# Altium integrated library Linear Technology Power Management Hot Swap Controllers.IntLib: 992 symbols (part 48 of 93)
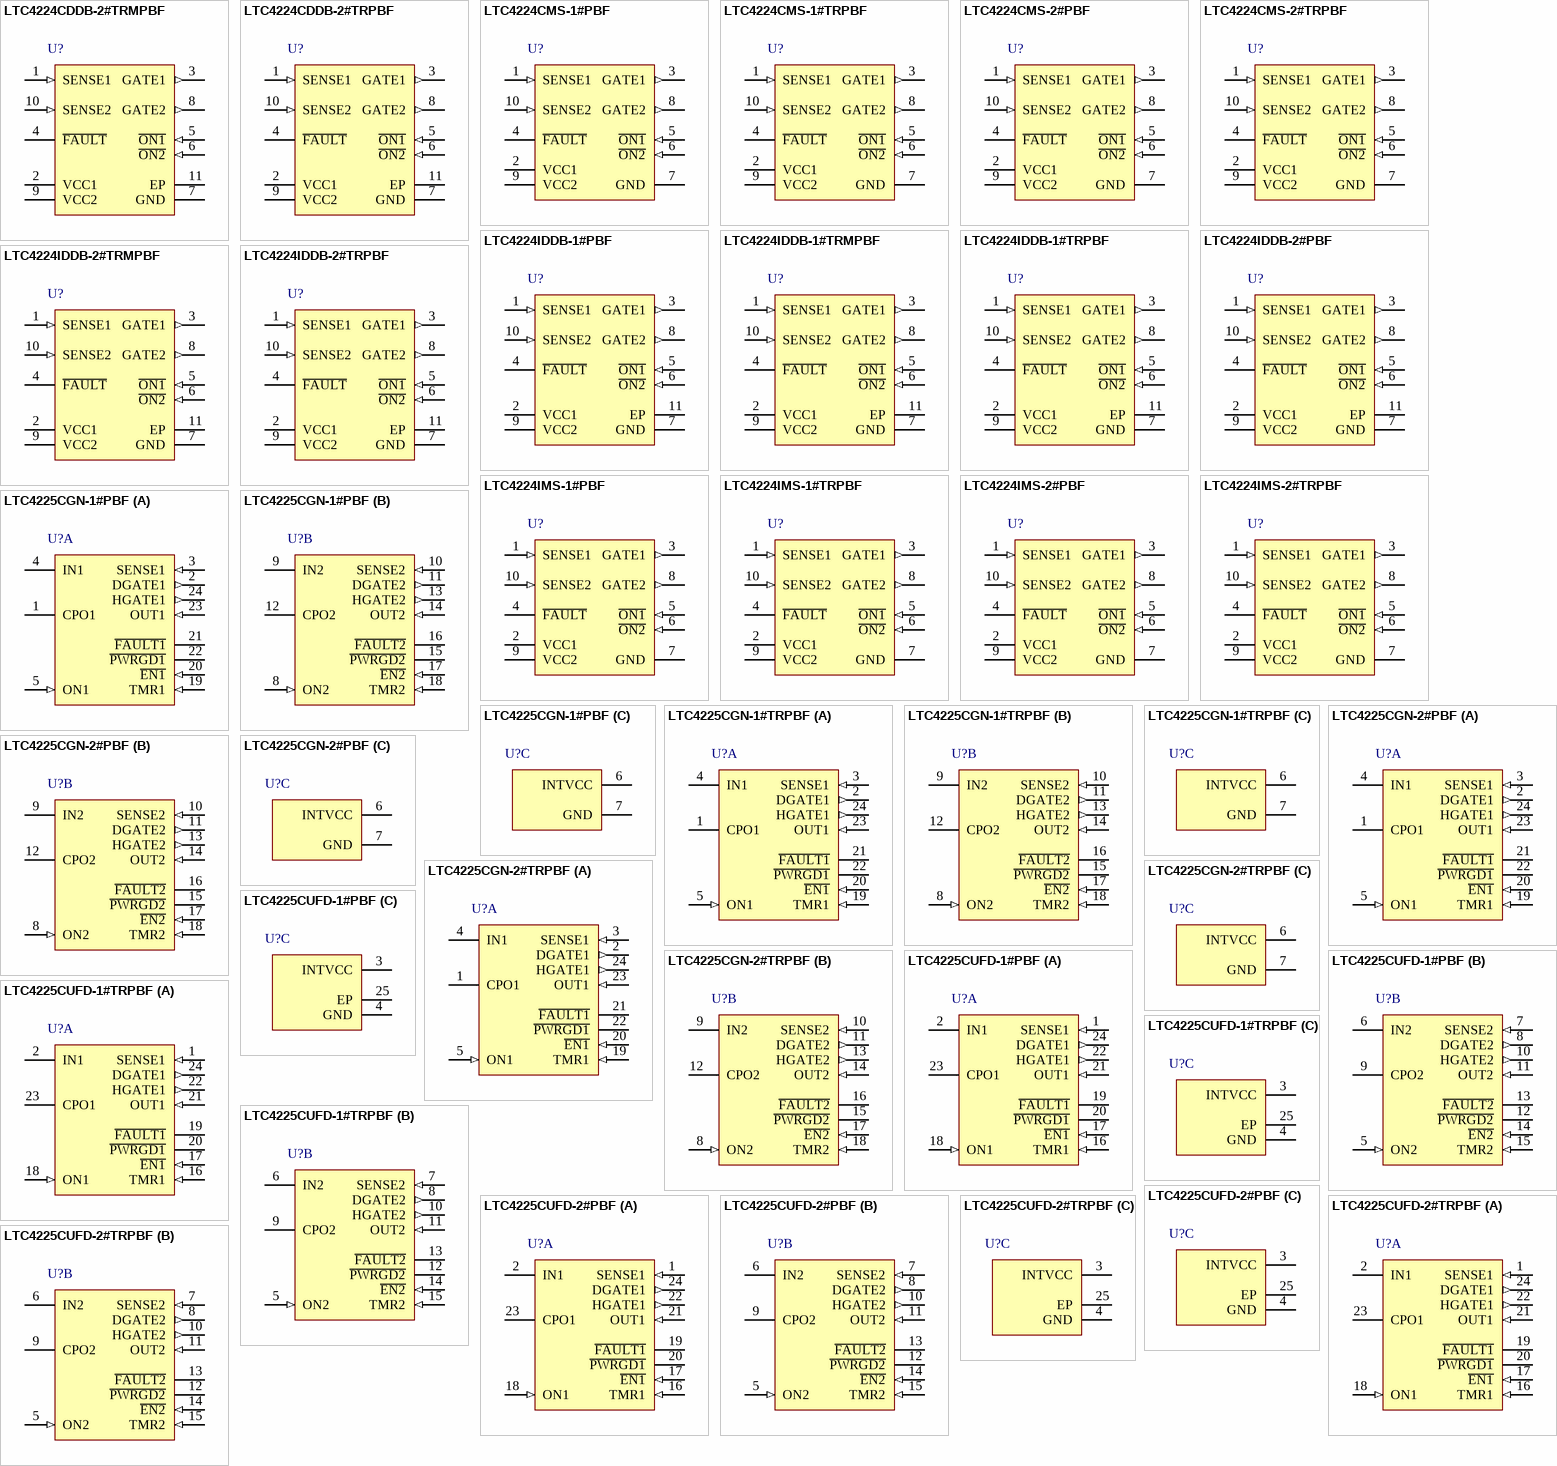
[diagram p84: symbols LTC4224CDDB-2#TRMPBF to LTC4225CUFD-2#TRPBF]

## LTC4224IDDB-2#TRMPBF
designator U?
Compact Dual Low Voltage Hot Swap Controller, 1 to 6 V Vin, 10-pin SON (DDB-10), -40 to 85 degC, Pb-Free, Mini Tape and Reel; Manufacturer: Linear Technology; PartNumber: LTC4224IDDB-2#TRMPBF; Active Limiting: yes; Circuit Breaker Accuracy(%): 10; Circuit Breaker Threshold: 50 mV; Circuit Breakers(#): 2; Extended Temp: C, I; Fast Comparator: no; Vin Range: 1V to 6 V; DatasheetVersion: Rev. A; PackageVersion: Rev. Ø, 06/2010; PackageReference: DDB10; PackageDescription: 10-Pin Plastic DFN, Body 3 x 2 mm, Pitch 0.5 mm; Supplier 1: Digi-Key; Supplier Part Number 1: LTC4224IDDB-2#TRMPBFTR-ND; Supplier 2: Digi-Key; Supplier Part Number 2: LTC4224IDDB-2#TRMPBFCT-ND; Supplier 3: Digi-Key; Supplier Part Number 3: LTC4224IDDB-2#TRMPBFDKR-ND; Fault: no; Foldback: no; Packing: Mini Tape and Reel; Power Good: yes; Reset: yes; RoHS: TRUE; Mounting Technology: Surface Mount; Code_JEDEC: MO-229; ComponentLink1Description: Manufacturer URL; ComponentLink1URL: http://www.linear.com/; ComponentLink2Description: Datasheet; ComponentLink2URL: http://cds.linear.com/docs/en/datasheet/422412fa.pdf; ComponentLink3Description: Package Specification; ComponentLink3URL: http://cds.linear.com/docs/en/packaging/DFN_10_05-08-1722.pdf
footprint LT-DDB-10_V (SON, 10-Leads, Body 3x2mm, Pitch 0.5mm, Thermal Pad 2.39x0.64mm)
pins: 1 SENSE1 (in) "Current Sense Input. Connect this pin to an external sense resistor. The current limit circuit controls GATEn to limit the voltage between VCCn and SENSEn to 25mV. An Electronic Circuit Breaker (ECB) is active during current (See Datasheet)", 2 VCC1 (power) "Supply Voltage and Current Sense Input. An undervoltage lockout circuit disables the part until VCC, the higher of VCC1 and VCC2, exceeds 2.4V. The lower supply is disabled until it exceeds 0.8V.", 3 GATE1 (out) "Gate Drive for External N-channel MOSFET. A charge pump sources 10uA from GATE to turn on the external MOSFET. An internal clamp limits the gate voltage to 5.5V above the higher of VCC1 and VCC2. During turn-off, a 1.5mA (See Datasheet)", 4 ~{FAULT} (oc) "Fault Status Output. Open-drain output that is normally pulled high to VCC1 or VCC2 by an external resistor. It is pulled low when the ECB trips due to an overcurrent condition at either supply. This pin may be left open if (See Datasheet)", 5 ~{ON1} (in) "On Control Input. A falling edge turns on the external N-channel MOSFET and a rising edge turns it off. A low to high transition on this pin resets an ECB fault for the corresponding channel. Internally pulled up to VCC by a (See Datasheet)", 6 ~{ON2} (in) "On Control Input. A falling edge turns on the external N-channel MOSFET and a rising edge turns it off. A low to high transition on this pin resets an ECB fault for the corresponding channel. Internally pulled up to VCC by a (See Datasheet)", 7 GND (power) "Device Ground.", 8 GATE2 (out) "Gate Drive for External N-channel MOSFET. A charge pump sources 10uA from GATE to turn on the external MOSFET. An internal clamp limits the gate voltage to 5.5V above the higher of VCC1 and VCC2. During turn-off, a 1.5mA (See Datasheet)", 9 VCC2 (power) "Supply Voltage and Current Sense Input. An undervoltage lockout circuit disables the part until VCC, the higher of VCC1 and VCC2, exceeds 2.4V. The lower supply is disabled until it exceeds 0.8V.", 10 SENSE2 (in) "Current Sense Input. Connect this pin to an external sense resistor. The current limit circuit controls GATEn to limit the voltage between VCCn and SENSEn to 25mV. An Electronic Circuit Breaker (ECB) is active during current (See Datasheet)", 11 EP "Exposed Pad may be left open or connected to device ground."

## LTC4224IDDB-2#TRPBF
designator U?
Compact Dual Low Voltage Hot Swap Controller, 1 to 6 V Vin, 10-pin SON (DDB-10), -40 to 85 degC, Pb-Free, Tape and Reel; Manufacturer: Linear Technology; PartNumber: LTC4224IDDB-2#TRPBF; Active Limiting: yes; Circuit Breaker Accuracy(%): 10; Circuit Breaker Threshold: 50 mV; Circuit Breakers(#): 2; Extended Temp: C, I; Fast Comparator: no; Vin Range: 1V to 6 V; DatasheetVersion: Rev. A; PackageVersion: Rev. Ø, 06/2010; PackageReference: DDB10; PackageDescription: 10-Pin Plastic DFN, Body 3 x 2 mm, Pitch 0.5 mm; Supplier 1: Digi-Key; Supplier Part Number 1: LTC4224IDDB-2#TRPBF-ND; Fault: no; Foldback: no; Packing: Tape and Reel; Power Good: yes; Reset: yes; RoHS: TRUE; Mounting Technology: Surface Mount; Code_JEDEC: MO-229; ComponentLink1Description: Manufacturer URL; ComponentLink1URL: http://www.linear.com/; ComponentLink2Description: Datasheet; ComponentLink2URL: http://cds.linear.com/docs/en/datasheet/422412fa.pdf; ComponentLink3Description: Package Specification; ComponentLink3URL: http://cds.linear.com/docs/en/packaging/DFN_10_05-08-1722.pdf
footprint LT-DDB-10_V (SON, 10-Leads, Body 3x2mm, Pitch 0.5mm, Thermal Pad 2.39x0.64mm)
pins: 1 SENSE1 (in) "Current Sense Input. Connect this pin to an external sense resistor. The current limit circuit controls GATEn to limit the voltage between VCCn and SENSEn to 25mV. An Electronic Circuit Breaker (ECB) is active during current (See Datasheet)", 2 VCC1 (power) "Supply Voltage and Current Sense Input. An undervoltage lockout circuit disables the part until VCC, the higher of VCC1 and VCC2, exceeds 2.4V. The lower supply is disabled until it exceeds 0.8V.", 3 GATE1 (out) "Gate Drive for External N-channel MOSFET. A charge pump sources 10uA from GATE to turn on the external MOSFET. An internal clamp limits the gate voltage to 5.5V above the higher of VCC1 and VCC2. During turn-off, a 1.5mA (See Datasheet)", 4 ~{FAULT} (oc) "Fault Status Output. Open-drain output that is normally pulled high to VCC1 or VCC2 by an external resistor. It is pulled low when the ECB trips due to an overcurrent condition at either supply. This pin may be left open if (See Datasheet)", 5 ~{ON1} (in) "On Control Input. A falling edge turns on the external N-channel MOSFET and a rising edge turns it off. A low to high transition on this pin resets an ECB fault for the corresponding channel. Internally pulled up to VCC by a (See Datasheet)", 6 ~{ON2} (in) "On Control Input. A falling edge turns on the external N-channel MOSFET and a rising edge turns it off. A low to high transition on this pin resets an ECB fault for the corresponding channel. Internally pulled up to VCC by a (See Datasheet)", 7 GND (power) "Device Ground.", 8 GATE2 (out) "Gate Drive for External N-channel MOSFET. A charge pump sources 10uA from GATE to turn on the external MOSFET. An internal clamp limits the gate voltage to 5.5V above the higher of VCC1 and VCC2. During turn-off, a 1.5mA (See Datasheet)", 9 VCC2 (power) "Supply Voltage and Current Sense Input. An undervoltage lockout circuit disables the part until VCC, the higher of VCC1 and VCC2, exceeds 2.4V. The lower supply is disabled until it exceeds 0.8V.", 10 SENSE2 (in) "Current Sense Input. Connect this pin to an external sense resistor. The current limit circuit controls GATEn to limit the voltage between VCCn and SENSEn to 25mV. An Electronic Circuit Breaker (ECB) is active during current (See Datasheet)", 11 EP "Exposed Pad may be left open or connected to device ground."

## LTC4224IMS-1#PBF
designator U?
Compact Dual Low Voltage Hot Swap Controller, 1 to 6 V Vin, 10-pin SOP (MS-10), -40 to 85 degC, Pb-Free; Manufacturer: Linear Technology; PartNumber: LTC4224IMS-1#PBF; Active Limiting: yes; Circuit Breaker Accuracy(%): 10; Circuit Breaker Threshold: 50 mV; Circuit Breakers(#): 2; Extended Temp: C, I; Fast Comparator: no; Vin Range: 1V to 6 V; DatasheetVersion: Rev. A; PackageVersion: Rev. E, 06/2010; PackageReference: MS-10; PackageDescription: 10-Pin Plastic MSOP, Body 3 x 3 mm, Pitch 0.5 mm; Supplier 1: Digi-Key; Supplier Part Number 1: LTC4224IMS-1#PBF-ND; Supplier 2: Newark; Supplier Part Number 2: 02P7602; Fault: no; Foldback: no; Power Good: yes; Reset: yes; RoHS: TRUE; Mounting Technology: Surface Mount; ComponentLink1Description: Manufacturer URL; ComponentLink1URL: http://www.linear.com/; ComponentLink2Description: Datasheet; ComponentLink2URL: http://cds.linear.com/docs/en/datasheet/422412fa.pdf; ComponentLink3Description: Package Specification; ComponentLink3URL: http://cds.linear.com/docs/en/packaging/05081661_F_MS.pdf
footprint LT-MS-10_N (SOP, 10-Leads, Body 3.1x3.1mm, Pitch 0.5mm, IPC Medium Density)
footprint LT-MS-10_L (SOP, 10-Leads, Body 3.1x3.1mm, Pitch 0.5mm, IPC High Density)
footprint LT-MS-10_M (SOP, 10-Leads, Body 3.1x3.1mm, Pitch 0.5mm, IPC Low Density)
pins: 1 SENSE1 (in) "Current Sense Input. Connect this pin to an external sense resistor. The current limit circuit controls GATEn to limit the voltage between VCCn and SENSEn to 25mV. An Electronic Circuit Breaker (ECB) is active during current (See Datasheet)", 2 VCC1 (power) "Supply Voltage and Current Sense Input. An undervoltage lockout circuit disables the part until VCC, the higher of VCC1 and VCC2, exceeds 2.4V. The lower supply is disabled until it exceeds 0.8V.", 3 GATE1 (out) "Gate Drive for External N-channel MOSFET. A charge pump sources 10uA from GATE to turn on the external MOSFET. An internal clamp limits the gate voltage to 5.5V above the higher of VCC1 and VCC2. During turn-off, a 1.5mA (See Datasheet)", 4 ~{FAULT} (oc) "Fault Status Output. Open-drain output that is normally pulled high to VCC1 or VCC2 by an external resistor. It is pulled low when the ECB trips due to an overcurrent condition at either supply. This pin may be left open if (See Datasheet)", 5 ~{ON1} (in) "On Control Input. A falling edge turns on the external N-channel MOSFET and a rising edge turns it off. A low to high transition on this pin resets an ECB fault for the corresponding channel. Internally pulled up to VCC by a (See Datasheet)", 6 ~{ON2} (in) "On Control Input. A falling edge turns on the external N-channel MOSFET and a rising edge turns it off. A low to high transition on this pin resets an ECB fault for the corresponding channel. Internally pulled up to VCC by a (See Datasheet)", 7 GND (power) "Device Ground.", 8 GATE2 (out) "Gate Drive for External N-channel MOSFET. A charge pump sources 10uA from GATE to turn on the external MOSFET. An internal clamp limits the gate voltage to 5.5V above the higher of VCC1 and VCC2. During turn-off, a 1.5mA (See Datasheet)", 9 VCC2 (power) "Supply Voltage and Current Sense Input. An undervoltage lockout circuit disables the part until VCC, the higher of VCC1 and VCC2, exceeds 2.4V. The lower supply is disabled until it exceeds 0.8V.", 10 SENSE2 (in) "Current Sense Input. Connect this pin to an external sense resistor. The current limit circuit controls GATEn to limit the voltage between VCCn and SENSEn to 25mV. An Electronic Circuit Breaker (ECB) is active during current (See Datasheet)"

## LTC4224IMS-1#TRPBF
designator U?
Compact Dual Low Voltage Hot Swap Controller, 1 to 6 V Vin, 10-pin SOP (MS-10), -40 to 85 degC, Pb-Free, Tape and Reel; Manufacturer: Linear Technology; PartNumber: LTC4224IMS-1#TRPBF; Active Limiting: yes; Circuit Breaker Accuracy(%): 10; Circuit Breaker Threshold: 50 mV; Circuit Breakers(#): 2; Extended Temp: C, I; Fast Comparator: no; Vin Range: 1V to 6 V; DatasheetVersion: Rev. A; PackageVersion: Rev. E, 06/2010; PackageReference: MS-10; PackageDescription: 10-Pin Plastic MSOP, Body 3 x 3 mm, Pitch 0.5 mm; Supplier 1: Digi-Key; Supplier Part Number 1: LTC4224IMS-1#TRPBF-ND; Supplier 2: Newark; Supplier Part Number 2: 02P7603; Fault: no; Foldback: no; Packing: Tape and Reel; Power Good: yes; Reset: yes; RoHS: TRUE; Mounting Technology: Surface Mount; ComponentLink1Description: Manufacturer URL; ComponentLink1URL: http://www.linear.com/; ComponentLink2Description: Datasheet; ComponentLink2URL: http://cds.linear.com/docs/en/datasheet/422412fa.pdf; ComponentLink3Description: Package Specification; ComponentLink3URL: http://cds.linear.com/docs/en/packaging/05081661_F_MS.pdf
footprint LT-MS-10_N (SOP, 10-Leads, Body 3.1x3.1mm, Pitch 0.5mm, IPC Medium Density)
footprint LT-MS-10_L (SOP, 10-Leads, Body 3.1x3.1mm, Pitch 0.5mm, IPC High Density)
footprint LT-MS-10_M (SOP, 10-Leads, Body 3.1x3.1mm, Pitch 0.5mm, IPC Low Density)
pins: 1 SENSE1 (in) "Current Sense Input. Connect this pin to an external sense resistor. The current limit circuit controls GATEn to limit the voltage between VCCn and SENSEn to 25mV. An Electronic Circuit Breaker (ECB) is active during current (See Datasheet)", 2 VCC1 (power) "Supply Voltage and Current Sense Input. An undervoltage lockout circuit disables the part until VCC, the higher of VCC1 and VCC2, exceeds 2.4V. The lower supply is disabled until it exceeds 0.8V.", 3 GATE1 (out) "Gate Drive for External N-channel MOSFET. A charge pump sources 10uA from GATE to turn on the external MOSFET. An internal clamp limits the gate voltage to 5.5V above the higher of VCC1 and VCC2. During turn-off, a 1.5mA (See Datasheet)", 4 ~{FAULT} (oc) "Fault Status Output. Open-drain output that is normally pulled high to VCC1 or VCC2 by an external resistor. It is pulled low when the ECB trips due to an overcurrent condition at either supply. This pin may be left open if (See Datasheet)", 5 ~{ON1} (in) "On Control Input. A falling edge turns on the external N-channel MOSFET and a rising edge turns it off. A low to high transition on this pin resets an ECB fault for the corresponding channel. Internally pulled up to VCC by a (See Datasheet)", 6 ~{ON2} (in) "On Control Input. A falling edge turns on the external N-channel MOSFET and a rising edge turns it off. A low to high transition on this pin resets an ECB fault for the corresponding channel. Internally pulled up to VCC by a (See Datasheet)", 7 GND (power) "Device Ground.", 8 GATE2 (out) "Gate Drive for External N-channel MOSFET. A charge pump sources 10uA from GATE to turn on the external MOSFET. An internal clamp limits the gate voltage to 5.5V above the higher of VCC1 and VCC2. During turn-off, a 1.5mA (See Datasheet)", 9 VCC2 (power) "Supply Voltage and Current Sense Input. An undervoltage lockout circuit disables the part until VCC, the higher of VCC1 and VCC2, exceeds 2.4V. The lower supply is disabled until it exceeds 0.8V.", 10 SENSE2 (in) "Current Sense Input. Connect this pin to an external sense resistor. The current limit circuit controls GATEn to limit the voltage between VCCn and SENSEn to 25mV. An Electronic Circuit Breaker (ECB) is active during current (See Datasheet)"

## LTC4224IMS-2#PBF
designator U?
Compact Dual Low Voltage Hot Swap Controller, 1 to 6 V Vin, 10-pin SOP (MS-10), -40 to 85 degC, Pb-Free; Manufacturer: Linear Technology; PartNumber: LTC4224IMS-2#PBF; Active Limiting: yes; Circuit Breaker Accuracy(%): 10; Circuit Breaker Threshold: 50 mV; Circuit Breakers(#): 2; Extended Temp: C, I; Fast Comparator: no; Vin Range: 1V to 6 V; DatasheetVersion: Rev. A; PackageVersion: Rev. E, 06/2010; PackageReference: MS-10; PackageDescription: 10-Pin Plastic MSOP, Body 3 x 3 mm, Pitch 0.5 mm; Supplier 1: Digi-Key; Supplier Part Number 1: LTC4224IMS-2#PBF-ND; Fault: no; Foldback: no; Power Good: yes; Reset: yes; RoHS: TRUE; Mounting Technology: Surface Mount; ComponentLink1Description: Manufacturer URL; ComponentLink1URL: http://www.linear.com/; ComponentLink2Description: Datasheet; ComponentLink2URL: http://cds.linear.com/docs/en/datasheet/422412fa.pdf; ComponentLink3Description: Package Specification; ComponentLink3URL: http://cds.linear.com/docs/en/packaging/05081661_F_MS.pdf
footprint LT-MS-10_N (SOP, 10-Leads, Body 3.1x3.1mm, Pitch 0.5mm, IPC Medium Density)
footprint LT-MS-10_L (SOP, 10-Leads, Body 3.1x3.1mm, Pitch 0.5mm, IPC High Density)
footprint LT-MS-10_M (SOP, 10-Leads, Body 3.1x3.1mm, Pitch 0.5mm, IPC Low Density)
pins: 1 SENSE1 (in) "Current Sense Input. Connect this pin to an external sense resistor. The current limit circuit controls GATEn to limit the voltage between VCCn and SENSEn to 25mV. An Electronic Circuit Breaker (ECB) is active during current (See Datasheet)", 2 VCC1 (power) "Supply Voltage and Current Sense Input. An undervoltage lockout circuit disables the part until VCC, the higher of VCC1 and VCC2, exceeds 2.4V. The lower supply is disabled until it exceeds 0.8V.", 3 GATE1 (out) "Gate Drive for External N-channel MOSFET. A charge pump sources 10uA from GATE to turn on the external MOSFET. An internal clamp limits the gate voltage to 5.5V above the higher of VCC1 and VCC2. During turn-off, a 1.5mA (See Datasheet)", 4 ~{FAULT} (oc) "Fault Status Output. Open-drain output that is normally pulled high to VCC1 or VCC2 by an external resistor. It is pulled low when the ECB trips due to an overcurrent condition at either supply. This pin may be left open if (See Datasheet)", 5 ~{ON1} (in) "On Control Input. A falling edge turns on the external N-channel MOSFET and a rising edge turns it off. A low to high transition on this pin resets an ECB fault for the corresponding channel. Internally pulled up to VCC by a (See Datasheet)", 6 ~{ON2} (in) "On Control Input. A falling edge turns on the external N-channel MOSFET and a rising edge turns it off. A low to high transition on this pin resets an ECB fault for the corresponding channel. Internally pulled up to VCC by a (See Datasheet)", 7 GND (power) "Device Ground.", 8 GATE2 (out) "Gate Drive for External N-channel MOSFET. A charge pump sources 10uA from GATE to turn on the external MOSFET. An internal clamp limits the gate voltage to 5.5V above the higher of VCC1 and VCC2. During turn-off, a 1.5mA (See Datasheet)", 9 VCC2 (power) "Supply Voltage and Current Sense Input. An undervoltage lockout circuit disables the part until VCC, the higher of VCC1 and VCC2, exceeds 2.4V. The lower supply is disabled until it exceeds 0.8V.", 10 SENSE2 (in) "Current Sense Input. Connect this pin to an external sense resistor. The current limit circuit controls GATEn to limit the voltage between VCCn and SENSEn to 25mV. An Electronic Circuit Breaker (ECB) is active during current (See Datasheet)"

## LTC4224IMS-2#TRPBF
designator U?
Compact Dual Low Voltage Hot Swap Controller, 1 to 6 V Vin, 10-pin SOP (MS-10), -40 to 85 degC, Pb-Free, Tape and Reel; Manufacturer: Linear Technology; PartNumber: LTC4224IMS-2#TRPBF; Active Limiting: yes; Circuit Breaker Accuracy(%): 10; Circuit Breaker Threshold: 50 mV; Circuit Breakers(#): 2; Extended Temp: C, I; Fast Comparator: no; Vin Range: 1V to 6 V; DatasheetVersion: Rev. A; PackageVersion: Rev. E, 06/2010; PackageReference: MS-10; PackageDescription: 10-Pin Plastic MSOP, Body 3 x 3 mm, Pitch 0.5 mm; Supplier 1: Digi-Key; Supplier Part Number 1: LTC4224IMS-2#TRPBF-ND; Fault: no; Foldback: no; Packing: Tape and Reel; Power Good: yes; Reset: yes; RoHS: TRUE; Mounting Technology: Surface Mount; ComponentLink1Description: Manufacturer URL; ComponentLink1URL: http://www.linear.com/; ComponentLink2Description: Datasheet; ComponentLink2URL: http://cds.linear.com/docs/en/datasheet/422412fa.pdf; ComponentLink3Description: Package Specification; ComponentLink3URL: http://cds.linear.com/docs/en/packaging/05081661_F_MS.pdf
footprint LT-MS-10_N (SOP, 10-Leads, Body 3.1x3.1mm, Pitch 0.5mm, IPC Medium Density)
footprint LT-MS-10_L (SOP, 10-Leads, Body 3.1x3.1mm, Pitch 0.5mm, IPC High Density)
footprint LT-MS-10_M (SOP, 10-Leads, Body 3.1x3.1mm, Pitch 0.5mm, IPC Low Density)
pins: 1 SENSE1 (in) "Current Sense Input. Connect this pin to an external sense resistor. The current limit circuit controls GATEn to limit the voltage between VCCn and SENSEn to 25mV. An Electronic Circuit Breaker (ECB) is active during current (See Datasheet)", 2 VCC1 (power) "Supply Voltage and Current Sense Input. An undervoltage lockout circuit disables the part until VCC, the higher of VCC1 and VCC2, exceeds 2.4V. The lower supply is disabled until it exceeds 0.8V.", 3 GATE1 (out) "Gate Drive for External N-channel MOSFET. A charge pump sources 10uA from GATE to turn on the external MOSFET. An internal clamp limits the gate voltage to 5.5V above the higher of VCC1 and VCC2. During turn-off, a 1.5mA (See Datasheet)", 4 ~{FAULT} (oc) "Fault Status Output. Open-drain output that is normally pulled high to VCC1 or VCC2 by an external resistor. It is pulled low when the ECB trips due to an overcurrent condition at either supply. This pin may be left open if (See Datasheet)", 5 ~{ON1} (in) "On Control Input. A falling edge turns on the external N-channel MOSFET and a rising edge turns it off. A low to high transition on this pin resets an ECB fault for the corresponding channel. Internally pulled up to VCC by a (See Datasheet)", 6 ~{ON2} (in) "On Control Input. A falling edge turns on the external N-channel MOSFET and a rising edge turns it off. A low to high transition on this pin resets an ECB fault for the corresponding channel. Internally pulled up to VCC by a (See Datasheet)", 7 GND (power) "Device Ground.", 8 GATE2 (out) "Gate Drive for External N-channel MOSFET. A charge pump sources 10uA from GATE to turn on the external MOSFET. An internal clamp limits the gate voltage to 5.5V above the higher of VCC1 and VCC2. During turn-off, a 1.5mA (See Datasheet)", 9 VCC2 (power) "Supply Voltage and Current Sense Input. An undervoltage lockout circuit disables the part until VCC, the higher of VCC1 and VCC2, exceeds 2.4V. The lower supply is disabled until it exceeds 0.8V.", 10 SENSE2 (in) "Current Sense Input. Connect this pin to an external sense resistor. The current limit circuit controls GATEn to limit the voltage between VCCn and SENSEn to 25mV. An Electronic Circuit Breaker (ECB) is active during current (See Datasheet)"

## LTC4225CGN-1#PBF
designator U?
Dual Ideal Diode and Hot Swap Controller, 2.9 to 18 V Vin, 24-pin SOP (GN-24), 0 to 70 degC, Pb-Free; Manufacturer: Linear Technology; PartNumber: LTC4225CGN-1#PBF; Active Limiting: yes; Circuit Breaker Accuracy(%): 5; Circuit Breaker Threshold: 50 mV; Circuit Breakers(#): 2; Extended Temp: C, I; Foldback: no; PackageVersion: Rev. B, 03/2012; PackageReference: GN24; PackageDescription: 24-Pin Plastic SSOP , Body 8.5 x 3.9 mm, Pitch 0.635 mm; Supplier 1: Digi-Key; Supplier Part Number 1: LTC4225CGN-1#PBF-ND; Fault: yes; Power Good: yes; RoHS: TRUE; Vin Range: 2.9 to 18 V; Mounting Technology: Surface Mount; ComponentLink1Description: Manufacturer URL; ComponentLink1URL: http://www.linear.com/; ComponentLink2Description: Datasheet; ComponentLink2URL: http://cds.linear.com/docs/en/datasheet/422512f.pdf; ComponentLink3Description: Package Specification; ComponentLink3URL: http://cds.linear.com/docs/en/packaging/05081641_B_GN24.pdf
footprint LT-GN-24_N (SOP, 24-Leads, Body 8.7x4mm, Pitch 0.635mm, IPC Medium Density)
footprint LT-GN-24_L (SOP, 24-Leads, Body 8.7x4mm, Pitch 0.635mm, IPC High Density)
footprint LT-GN-24_M (SOP, 24-Leads, Body 8.7x4mm, Pitch 0.635mm, IPC Low Density)
part A pins: 1 CPO1 "Charge Pump Output. Connect a capacitor from CPO1 or CPO2 to the corresponding IN1 or IN2 pin. The value of this capacitor is approximately 10x the gate capacitance (CISS) of the external MOSFET for ideal diode control. The (See Datasheet)", 2 DGATE1 (out) "Ideal Diode MOSFET Gate Drive Output. Connect this pin to the gate of an external N-channel MOSFET for ideal diode control. An internal clamp limits the gate voltage to 12V above and a diode voltage below IN. During fast (See Datasheet)", 3 SENSE1 (in) "Negative Current Sense Input. Connect this pin to the output of the current sense resistor. The current limit circuit controls HGATE to limit the voltage between IN and SENSE to 65mV. A circuit breaker trips when the sense (See Datasheet)", 4 IN1 (power) "Positive Supply Input and MOSFET Gate Drive Return. The 5V INTVCC supply is generated from IN1 and IN2 via an internal diode-OR. The voltage sensed at this pin is used to control DGATE for forward voltage regulation and (See Datasheet)", 5 ON1 (in) "On Control Input. A rising edge above 1.235V turns on the external Hot Swap MOSFET and a falling edge below 1.155V turns it off. Connect this pin to an external resistive divider from IN to monitor the supply undervoltage (See Datasheet)", 19 TMR1 (in) "Timer Capacitor Terminal. Connect a capacitor between this pin and ground to set a 12ms/uF duration for current limit before the external Hot Swap MOSFET is turned off. The duration of the off time is 617ms/uF, resulting in (See Datasheet)", 20 ~{EN1} (in) "Enable Input. Ground this pin to enable Hot Swap control. If this pin is pulled high, the MOSFET is not allowed to turn on. A 10uA current source pulls this pin up to a diode below INTVCC. Upon E\N\ going low when ON is (See Datasheet)", 21 ~{FAULT1} (oc) "Fault Status Output. Open-drain output that is normally pulled high by a 10uA current source to a diode below INTVCC. It may be pulled above INTVCC using an external pull-up. It pulls low when the circuit breaker is tripped (See Datasheet)", 22 ~{PWRGD1} (oc) "Power Status Output. Open-drain output that is normally pulled high by a 10uA current source to a diode below INTVCC. It may be pulled above INTVCC using an external pull-up. It pulls low when the MOSFET gate drive between (See Datasheet)", 23 OUT1 (in) "Output Voltage Sense and MOSFET Gate Drive Return. Connect this pin to the output side of the external MOSFET. The voltage sensed at this pin is used to control DGATE. The gate fast pull-down current returns through this pin (See Datasheet)", 24 HGATE1 (out) "Hot Swap MOSFET Gate Drive Output. Connect this pin to the gate of the external N-channel MOSFET for Hot Swap control. An internal 10uA current source charges the MOSFET gate. An internal clamp limits the gate voltage to 12V (See Datasheet)"
part B pins: 8 ON2 (in) "On Control Input. A rising edge above 1.235V turns on the external Hot Swap MOSFET and a falling edge below 1.155V turns it off. Connect this pin to an external resistive divider from IN to monitor the supply undervoltage (See Datasheet)", 9 IN2 (power) "Positive Supply Input and MOSFET Gate Drive Return. The 5V INTVCC supply is generated from IN1 and IN2 via an internal diode-OR. The voltage sensed at this pin is used to control DGATE for forward voltage regulation and (See Datasheet)", 10 SENSE2 (in) "Negative Current Sense Input. Connect this pin to the output of the current sense resistor. The current limit circuit controls HGATE to limit the voltage between IN and SENSE to 65mV. A circuit breaker trips when the sense (See Datasheet)", 11 DGATE2 (out) "Ideal Diode MOSFET Gate Drive Output. Connect this pin to the gate of an external N-channel MOSFET for ideal diode control. An internal clamp limits the gate voltage to 12V above and a diode voltage below IN. During fast (See Datasheet)", 12 CPO2 "Charge Pump Output. Connect a capacitor from CPO1 or CPO2 to the corresponding IN1 or IN2 pin. The value of this capacitor is approximately 10x the gate capacitance (CISS) of the external MOSFET for ideal diode control. The (See Datasheet)", 13 HGATE2 (out) "Hot Swap MOSFET Gate Drive Output. Connect this pin to the gate of the external N-channel MOSFET for Hot Swap control. An internal 10uA current source charges the MOSFET gate. An internal clamp limits the gate voltage to 12V (See Datasheet)", 14 OUT2 (in) "Output Voltage Sense and MOSFET Gate Drive Return. Connect this pin to the output side of the external MOSFET. The voltage sensed at this pin is used to control DGATE. The gate fast pull-down current returns through this pin (See Datasheet)", 15 ~{PWRGD2} (oc) "Power Status Output. Open-drain output that is normally pulled high by a 10uA current source to a diode below INTVCC. It may be pulled above INTVCC using an external pull-up. It pulls low when the MOSFET gate drive between (See Datasheet)", 16 ~{FAULT2} (oc) "Fault Status Output. Open-drain output that is normally pulled high by a 10uA current source to a diode below INTVCC. It may be pulled above INTVCC using an external pull-up. It pulls low when the circuit breaker is tripped (See Datasheet)", 17 ~{EN2} (in) "Enable Input. Ground this pin to enable Hot Swap control. If this pin is pulled high, the MOSFET is not allowed to turn on. A 10uA current source pulls this pin up to a diode below INTVCC. Upon E\N\ going low when ON is (See Datasheet)", 18 TMR2 (in) "Timer Capacitor Terminal. Connect a capacitor between this pin and ground to set a 12ms/uF duration for current limit before the external Hot Swap MOSFET is turned off. The duration of the off time is 617ms/uF, resulting in (See Datasheet)"
part C pins: 6 INTVCC (power) "Internal 5V Supply Decoupling Output. This pin must have a 0.1uF or larger capacitor. An external load of less than 500uA can be connected at this pin.", 7 GND (power) "Device Ground"

## LTC4225CGN-1#TRPBF
designator U?
Dual Ideal Diode and Hot Swap Controller, 2.9 to 18 V Vin, 24-pin SOP (GN-24), 0 to 70 degC, Pb-Free, Tape and Reel; Manufacturer: Linear Technology; PartNumber: LTC4225CGN-1#TRPBF; Active Limiting: yes; Circuit Breaker Accuracy(%): 5; Circuit Breaker Threshold: 50 mV; Circuit Breakers(#): 2; Extended Temp: C, I; Foldback: no; PackageVersion: Rev. B, 03/2012; PackageReference: GN24; PackageDescription: 24-Pin Plastic SSOP , Body 8.5 x 3.9 mm, Pitch 0.635 mm; Supplier 1: Digi-Key; Supplier Part Number 1: LTC4225CGN-1#TRPBF-ND; Fault: yes; Packing: Tape and Reel; Power Good: yes; RoHS: TRUE; Vin Range: 2.9 to 18 V; Mounting Technology: Surface Mount; ComponentLink1Description: Manufacturer URL; ComponentLink1URL: http://www.linear.com/; ComponentLink2Description: Datasheet; ComponentLink2URL: http://cds.linear.com/docs/en/datasheet/422512f.pdf; ComponentLink3Description: Package Specification; ComponentLink3URL: http://cds.linear.com/docs/en/packaging/05081641_B_GN24.pdf
footprint LT-GN-24_N (SOP, 24-Leads, Body 8.7x4mm, Pitch 0.635mm, IPC Medium Density)
footprint LT-GN-24_L (SOP, 24-Leads, Body 8.7x4mm, Pitch 0.635mm, IPC High Density)
footprint LT-GN-24_M (SOP, 24-Leads, Body 8.7x4mm, Pitch 0.635mm, IPC Low Density)
part A pins: 1 CPO1 "Charge Pump Output. Connect a capacitor from CPO1 or CPO2 to the corresponding IN1 or IN2 pin. The value of this capacitor is approximately 10x the gate capacitance (CISS) of the external MOSFET for ideal diode control. The (See Datasheet)", 2 DGATE1 (out) "Ideal Diode MOSFET Gate Drive Output. Connect this pin to the gate of an external N-channel MOSFET for ideal diode control. An internal clamp limits the gate voltage to 12V above and a diode voltage below IN. During fast (See Datasheet)", 3 SENSE1 (in) "Negative Current Sense Input. Connect this pin to the output of the current sense resistor. The current limit circuit controls HGATE to limit the voltage between IN and SENSE to 65mV. A circuit breaker trips when the sense (See Datasheet)", 4 IN1 (power) "Positive Supply Input and MOSFET Gate Drive Return. The 5V INTVCC supply is generated from IN1 and IN2 via an internal diode-OR. The voltage sensed at this pin is used to control DGATE for forward voltage regulation and (See Datasheet)", 5 ON1 (in) "On Control Input. A rising edge above 1.235V turns on the external Hot Swap MOSFET and a falling edge below 1.155V turns it off. Connect this pin to an external resistive divider from IN to monitor the supply undervoltage (See Datasheet)", 19 TMR1 (in) "Timer Capacitor Terminal. Connect a capacitor between this pin and ground to set a 12ms/uF duration for current limit before the external Hot Swap MOSFET is turned off. The duration of the off time is 617ms/uF, resulting in (See Datasheet)", 20 ~{EN1} (in) "Enable Input. Ground this pin to enable Hot Swap control. If this pin is pulled high, the MOSFET is not allowed to turn on. A 10uA current source pulls this pin up to a diode below INTVCC. Upon E\N\ going low when ON is (See Datasheet)", 21 ~{FAULT1} (oc) "Fault Status Output. Open-drain output that is normally pulled high by a 10uA current source to a diode below INTVCC. It may be pulled above INTVCC using an external pull-up. It pulls low when the circuit breaker is tripped (See Datasheet)", 22 ~{PWRGD1} (oc) "Power Status Output. Open-drain output that is normally pulled high by a 10uA current source to a diode below INTVCC. It may be pulled above INTVCC using an external pull-up. It pulls low when the MOSFET gate drive between (See Datasheet)", 23 OUT1 (in) "Output Voltage Sense and MOSFET Gate Drive Return. Connect this pin to the output side of the external MOSFET. The voltage sensed at this pin is used to control DGATE. The gate fast pull-down current returns through this pin (See Datasheet)", 24 HGATE1 (out) "Hot Swap MOSFET Gate Drive Output. Connect this pin to the gate of the external N-channel MOSFET for Hot Swap control. An internal 10uA current source charges the MOSFET gate. An internal clamp limits the gate voltage to 12V (See Datasheet)"
part B pins: 8 ON2 (in) "On Control Input. A rising edge above 1.235V turns on the external Hot Swap MOSFET and a falling edge below 1.155V turns it off. Connect this pin to an external resistive divider from IN to monitor the supply undervoltage (See Datasheet)", 9 IN2 (power) "Positive Supply Input and MOSFET Gate Drive Return. The 5V INTVCC supply is generated from IN1 and IN2 via an internal diode-OR. The voltage sensed at this pin is used to control DGATE for forward voltage regulation and (See Datasheet)", 10 SENSE2 (in) "Negative Current Sense Input. Connect this pin to the output of the current sense resistor. The current limit circuit controls HGATE to limit the voltage between IN and SENSE to 65mV. A circuit breaker trips when the sense (See Datasheet)", 11 DGATE2 (out) "Ideal Diode MOSFET Gate Drive Output. Connect this pin to the gate of an external N-channel MOSFET for ideal diode control. An internal clamp limits the gate voltage to 12V above and a diode voltage below IN. During fast (See Datasheet)", 12 CPO2 "Charge Pump Output. Connect a capacitor from CPO1 or CPO2 to the corresponding IN1 or IN2 pin. The value of this capacitor is approximately 10x the gate capacitance (CISS) of the external MOSFET for ideal diode control. The (See Datasheet)", 13 HGATE2 (out) "Hot Swap MOSFET Gate Drive Output. Connect this pin to the gate of the external N-channel MOSFET for Hot Swap control. An internal 10uA current source charges the MOSFET gate. An internal clamp limits the gate voltage to 12V (See Datasheet)", 14 OUT2 (in) "Output Voltage Sense and MOSFET Gate Drive Return. Connect this pin to the output side of the external MOSFET. The voltage sensed at this pin is used to control DGATE. The gate fast pull-down current returns through this pin (See Datasheet)", 15 ~{PWRGD2} (oc) "Power Status Output. Open-drain output that is normally pulled high by a 10uA current source to a diode below INTVCC. It may be pulled above INTVCC using an external pull-up. It pulls low when the MOSFET gate drive between (See Datasheet)", 16 ~{FAULT2} (oc) "Fault Status Output. Open-drain output that is normally pulled high by a 10uA current source to a diode below INTVCC. It may be pulled above INTVCC using an external pull-up. It pulls low when the circuit breaker is tripped (See Datasheet)", 17 ~{EN2} (in) "Enable Input. Ground this pin to enable Hot Swap control. If this pin is pulled high, the MOSFET is not allowed to turn on. A 10uA current source pulls this pin up to a diode below INTVCC. Upon E\N\ going low when ON is (See Datasheet)", 18 TMR2 (in) "Timer Capacitor Terminal. Connect a capacitor between this pin and ground to set a 12ms/uF duration for current limit before the external Hot Swap MOSFET is turned off. The duration of the off time is 617ms/uF, resulting in (See Datasheet)"
part C pins: 6 INTVCC (power) "Internal 5V Supply Decoupling Output. This pin must have a 0.1uF or larger capacitor. An external load of less than 500uA can be connected at this pin.", 7 GND (power) "Device Ground"

## LTC4225CGN-2#PBF
designator U?
Dual Ideal Diode and Hot Swap Controller, 2.9 to 18 V Vin, 24-pin SOP (GN-24), 0 to 70 degC, Pb-Free; Manufacturer: Linear Technology; PartNumber: LTC4225CGN-2#PBF; Active Limiting: yes; Circuit Breaker Accuracy(%): 5; Circuit Breaker Threshold: 50 mV; Circuit Breakers(#): 2; Extended Temp: C, I; Foldback: no; PackageVersion: Rev. B, 03/2012; PackageReference: GN24; PackageDescription: 24-Pin Plastic SSOP , Body 8.5 x 3.9 mm, Pitch 0.635 mm; Supplier 1: Digi-Key; Supplier Part Number 1: LTC4225CGN-2#PBF-ND; Fault: yes; Power Good: yes; RoHS: TRUE; Vin Range: 2.9 to 18 V; Mounting Technology: Surface Mount; ComponentLink1Description: Manufacturer URL; ComponentLink1URL: http://www.linear.com/; ComponentLink2Description: Datasheet; ComponentLink2URL: http://cds.linear.com/docs/en/datasheet/422512f.pdf; ComponentLink3Description: Package Specification; ComponentLink3URL: http://cds.linear.com/docs/en/packaging/05081641_B_GN24.pdf
footprint LT-GN-24_N (SOP, 24-Leads, Body 8.7x4mm, Pitch 0.635mm, IPC Medium Density)
footprint LT-GN-24_L (SOP, 24-Leads, Body 8.7x4mm, Pitch 0.635mm, IPC High Density)
footprint LT-GN-24_M (SOP, 24-Leads, Body 8.7x4mm, Pitch 0.635mm, IPC Low Density)
part A pins: 1 CPO1 "Charge Pump Output. Connect a capacitor from CPO1 or CPO2 to the corresponding IN1 or IN2 pin. The value of this capacitor is approximately 10x the gate capacitance (CISS) of the external MOSFET for ideal diode control. The (See Datasheet)", 2 DGATE1 (out) "Ideal Diode MOSFET Gate Drive Output. Connect this pin to the gate of an external N-channel MOSFET for ideal diode control. An internal clamp limits the gate voltage to 12V above and a diode voltage below IN. During fast (See Datasheet)", 3 SENSE1 (in) "Negative Current Sense Input. Connect this pin to the output of the current sense resistor. The current limit circuit controls HGATE to limit the voltage between IN and SENSE to 65mV. A circuit breaker trips when the sense (See Datasheet)", 4 IN1 (power) "Positive Supply Input and MOSFET Gate Drive Return. The 5V INTVCC supply is generated from IN1 and IN2 via an internal diode-OR. The voltage sensed at this pin is used to control DGATE for forward voltage regulation and (See Datasheet)", 5 ON1 (in) "On Control Input. A rising edge above 1.235V turns on the external Hot Swap MOSFET and a falling edge below 1.155V turns it off. Connect this pin to an external resistive divider from IN to monitor the supply undervoltage (See Datasheet)", 19 TMR1 (in) "Timer Capacitor Terminal. Connect a capacitor between this pin and ground to set a 12ms/uF duration for current limit before the external Hot Swap MOSFET is turned off. The duration of the off time is 617ms/uF, resulting in (See Datasheet)", 20 ~{EN1} (in) "Enable Input. Ground this pin to enable Hot Swap control. If this pin is pulled high, the MOSFET is not allowed to turn on. A 10uA current source pulls this pin up to a diode below INTVCC. Upon E\N\ going low when ON is (See Datasheet)", 21 ~{FAULT1} (oc) "Fault Status Output. Open-drain output that is normally pulled high by a 10uA current source to a diode below INTVCC. It may be pulled above INTVCC using an external pull-up. It pulls low when the circuit breaker is tripped (See Datasheet)", 22 ~{PWRGD1} (oc) "Power Status Output. Open-drain output that is normally pulled high by a 10uA current source to a diode below INTVCC. It may be pulled above INTVCC using an external pull-up. It pulls low when the MOSFET gate drive between (See Datasheet)", 23 OUT1 (in) "Output Voltage Sense and MOSFET Gate Drive Return. Connect this pin to the output side of the external MOSFET. The voltage sensed at this pin is used to control DGATE. The gate fast pull-down current returns through this pin (See Datasheet)", 24 HGATE1 (out) "Hot Swap MOSFET Gate Drive Output. Connect this pin to the gate of the external N-channel MOSFET for Hot Swap control. An internal 10uA current source charges the MOSFET gate. An internal clamp limits the gate voltage to 12V (See Datasheet)"
part B pins: 8 ON2 (in) "On Control Input. A rising edge above 1.235V turns on the external Hot Swap MOSFET and a falling edge below 1.155V turns it off. Connect this pin to an external resistive divider from IN to monitor the supply undervoltage (See Datasheet)", 9 IN2 (power) "Positive Supply Input and MOSFET Gate Drive Return. The 5V INTVCC supply is generated from IN1 and IN2 via an internal diode-OR. The voltage sensed at this pin is used to control DGATE for forward voltage regulation and (See Datasheet)", 10 SENSE2 (in) "Negative Current Sense Input. Connect this pin to the output of the current sense resistor. The current limit circuit controls HGATE to limit the voltage between IN and SENSE to 65mV. A circuit breaker trips when the sense (See Datasheet)", 11 DGATE2 (out) "Ideal Diode MOSFET Gate Drive Output. Connect this pin to the gate of an external N-channel MOSFET for ideal diode control. An internal clamp limits the gate voltage to 12V above and a diode voltage below IN. During fast (See Datasheet)", 12 CPO2 "Charge Pump Output. Connect a capacitor from CPO1 or CPO2 to the corresponding IN1 or IN2 pin. The value of this capacitor is approximately 10x the gate capacitance (CISS) of the external MOSFET for ideal diode control. The (See Datasheet)", 13 HGATE2 (out) "Hot Swap MOSFET Gate Drive Output. Connect this pin to the gate of the external N-channel MOSFET for Hot Swap control. An internal 10uA current source charges the MOSFET gate. An internal clamp limits the gate voltage to 12V (See Datasheet)", 14 OUT2 (in) "Output Voltage Sense and MOSFET Gate Drive Return. Connect this pin to the output side of the external MOSFET. The voltage sensed at this pin is used to control DGATE. The gate fast pull-down current returns through this pin (See Datasheet)", 15 ~{PWRGD2} (oc) "Power Status Output. Open-drain output that is normally pulled high by a 10uA current source to a diode below INTVCC. It may be pulled above INTVCC using an external pull-up. It pulls low when the MOSFET gate drive between (See Datasheet)", 16 ~{FAULT2} (oc) "Fault Status Output. Open-drain output that is normally pulled high by a 10uA current source to a diode below INTVCC. It may be pulled above INTVCC using an external pull-up. It pulls low when the circuit breaker is tripped (See Datasheet)", 17 ~{EN2} (in) "Enable Input. Ground this pin to enable Hot Swap control. If this pin is pulled high, the MOSFET is not allowed to turn on. A 10uA current source pulls this pin up to a diode below INTVCC. Upon E\N\ going low when ON is (See Datasheet)", 18 TMR2 (in) "Timer Capacitor Terminal. Connect a capacitor between this pin and ground to set a 12ms/uF duration for current limit before the external Hot Swap MOSFET is turned off. The duration of the off time is 617ms/uF, resulting in (See Datasheet)"
part C pins: 6 INTVCC (power) "Internal 5V Supply Decoupling Output. This pin must have a 0.1uF or larger capacitor. An external load of less than 500uA can be connected at this pin.", 7 GND (power) "Device Ground"